# EAGLE library part 690367291676 (library WR-MM)
WR-MM Female SMT Connector with Latch & Polarization Material Properties Insulator Material PA6T Insulator Flammability Rating UL94 V-0 Insulator Color Red Contact Material Phosphor Bronze Contact Plating Matte Tin over Nickel Contact Type Stamped Packaging Properties cULus Approval E323964 Packaging Tape and Reel General Information Operating Temperature -40 °C up to +105 °C Compliance Lead free / RoHS Pitch 2.54 mm Gender Female Electrical Properties Working Voltage 250 V (AC) Withstanding Voltage 500 V (AC) Contact Resistance 10 mΩ RISO 1000 MΩ <https://www.we-online.com/components/media/o33161v209%20Family-WR-MM-69036729xx76.jpg> Details see: www.we-online.com/en/components/products/MM_1_27_SMT_FEMALE_CONNECTOR_WITH_LATCH_AND_POLARIZATION_69036729XX76_2 <www.we-online.com/catalog/MM_1_27_SMT_FEMALE_CONNECTOR_WITH_LATCH_AND_POLARIZATION_69036729XX76_2/?utm_source=eagle_model&utm_medium=description_link&utm_campaign=eisos_eagle> Updated by Ella 2025-02-28 2025 (C) Würth Elektronik
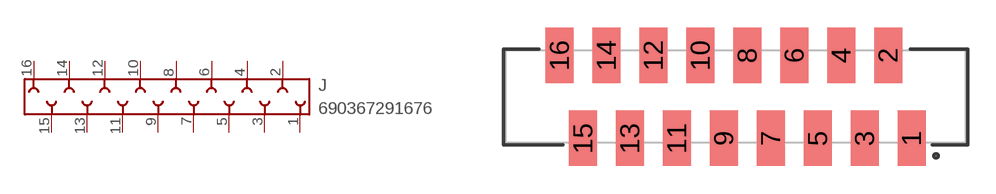
[diagram p104: symbol with the pads of 690367291676; footprint 690367291676]

Designator prefix J

## 690367291676 (DATASHEET-URL: https://www.we-online.com/redexpert/spec/690367291676?ae; GENDER: Female; IR: 1.5A; PACKAGING: Tape and Reel; PART-NUMBER: 690367291676; PINS: 16; PITCH: 2.54; TYPE: Straight; VALUE: 690367291676)  [690367291676]
1  1  pas
2  2  pas
3  3  pas
4  4  pas
5  5  pas
6  6  pas
7  7  pas
8  8  pas
9  9  pas
10  10  pas
11  11  pas
12  12  pas
13  13  pas
14  14  pas
15  15  pas
16  16  pas

## Footprint 690367291676 (pad centres in mm)
WR-MM Female SMT Connector with Latch & Polarization,16 pins
smd 1.5 x 3: 1 9.525,-2.25; 2 8.255,2.25; 3 6.985,-2.25; 4 5.715,2.25; 5 4.445,-2.25; 6 3.175,2.25; 7 1.905,-2.25; 8 0.635,2.25; 9 -0.635,-2.25; 10 -1.905,2.25; 11 -3.175,-2.25; 12 -4.445,2.25; 13 -5.715,-2.25; 14 -6.985,2.25; 15 -8.255,-2.25; 16 -9.525,2.25